# EAGLE library part FPC50_PIN (library we-con)
FPC/ZIF Connector FCI 62684-502100AHLF -> 50 Pins 0.5mm top contact FCI 62684-501100AHLF -> 50 Pins 0.5mm bottom contact
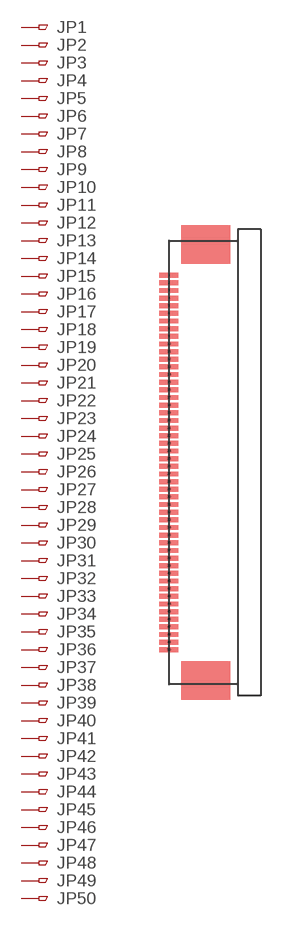
[diagram p29: symbol with the pads of FPC50-0.5; footprint FPC50-0.5]

Designator prefix J; gates P1=PIN P2=PIN P3=PIN P4=PIN P5=PIN P6=PIN P7=PIN P8=PIN P9=PIN P10=PIN P11=PIN P12=PIN P13=PIN P14=PIN P15=PIN P16=PIN P17=PIN P18=PIN P19=PIN P20=PIN P21=PIN P22=PIN P23=PIN P24=PIN P25=PIN P26=PIN P27=PIN P28=PIN P29=PIN P30=PIN P31=PIN P32=PIN P33=PIN P34=PIN P35=PIN P36=PIN P37=PIN P38=PIN P39=PIN P40=PIN P41=PIN P42=PIN P43=PIN P44=PIN P45=PIN P46=PIN P47=PIN P48=PIN P49=PIN P50=PIN

## FPC50_PIN (DIGIKEY_BOT: 62684-501100AHLF-ND; DIGIKEY_TOP: 62684-502100AHLF-ND)  [FPC50-0.5]
1  P1:1  pas
2  P2:1  pas
3  P3:1  pas
4  P4:1  pas
5  P5:1  pas
6  P6:1  pas
7  P7:1  pas
8  P8:1  pas
9  P9:1  pas
10  P10:1  pas
11  P11:1  pas
12  P12:1  pas
13  P13:1  pas
14  P14:1  pas
15  P15:1  pas
16  P16:1  pas
17  P17:1  pas
18  P18:1  pas
19  P19:1  pas
20  P20:1  pas
21  P21:1  pas
22  P22:1  pas
23  P23:1  pas
24  P24:1  pas
25  P25:1  pas
26  P26:1  pas
27  P27:1  pas
28  P28:1  pas
29  P29:1  pas
30  P30:1  pas
31  P31:1  pas
32  P32:1  pas
33  P33:1  pas
34  P34:1  pas
35  P35:1  pas
36  P36:1  pas
37  P37:1  pas
38  P38:1  pas
39  P39:1  pas
40  P40:1  pas
41  P41:1  pas
42  P42:1  pas
43  P43:1  pas
44  P44:1  pas
45  P45:1  pas
46  P46:1  pas
47  P47:1  pas
48  P48:1  pas
49  P49:1  pas
50  P50:1  pas

## Footprint FPC50-0.5 (pad centres in mm)
50 Pins 0.5mm FCI 62684-502100AHLF -> top contact FCI 62684-501100AHLF -> bottom contact
smd 1.27 x 0.279: 1 0,12.25; 2 0,11.75; 3 0,11.25; 4 0,10.75; 5 0,10.25; 6 0,9.75; 7 0,9.25; 8 0,8.75; 9 0,8.25; 10 0,7.75; 11 0,7.25; 12 0,6.75; 13 0,6.25; 14 0,5.75; 15 0,5.25; 16 0,4.75; 17 0,4.25; 18 0,3.75; 19 0,3.25; 20 0,2.75; 21 0,2.25; 22 0,1.75; 23 0,1.25; 24 0,0.75; 25 0,0.25; 26 0,-0.25; 27 0,-0.75; 28 0,-1.25; 29 0,-1.75; 30 0,-2.25; 31 0,-2.75; 32 0,-3.25; 33 0,-3.75; 34 0,-4.25; 35 0,-4.75; 36 0,-5.25; 37 0,-5.75; 38 0,-6.25; 39 0,-6.75; 40 0,-7.25; 41 0,-7.75; 42 0,-8.25; 43 0,-8.75; 44 0,-9.25; 45 0,-9.75; 46 0,-10.25; 47 0,-10.75; 48 0,-11.25; 49 0,-11.75; 50 0,-12.25